# Altium schematic symbol library Node v2013.SCHLIB: 37 symbols
Pins are listed as number, name and electrical type; pins without a type are passive.

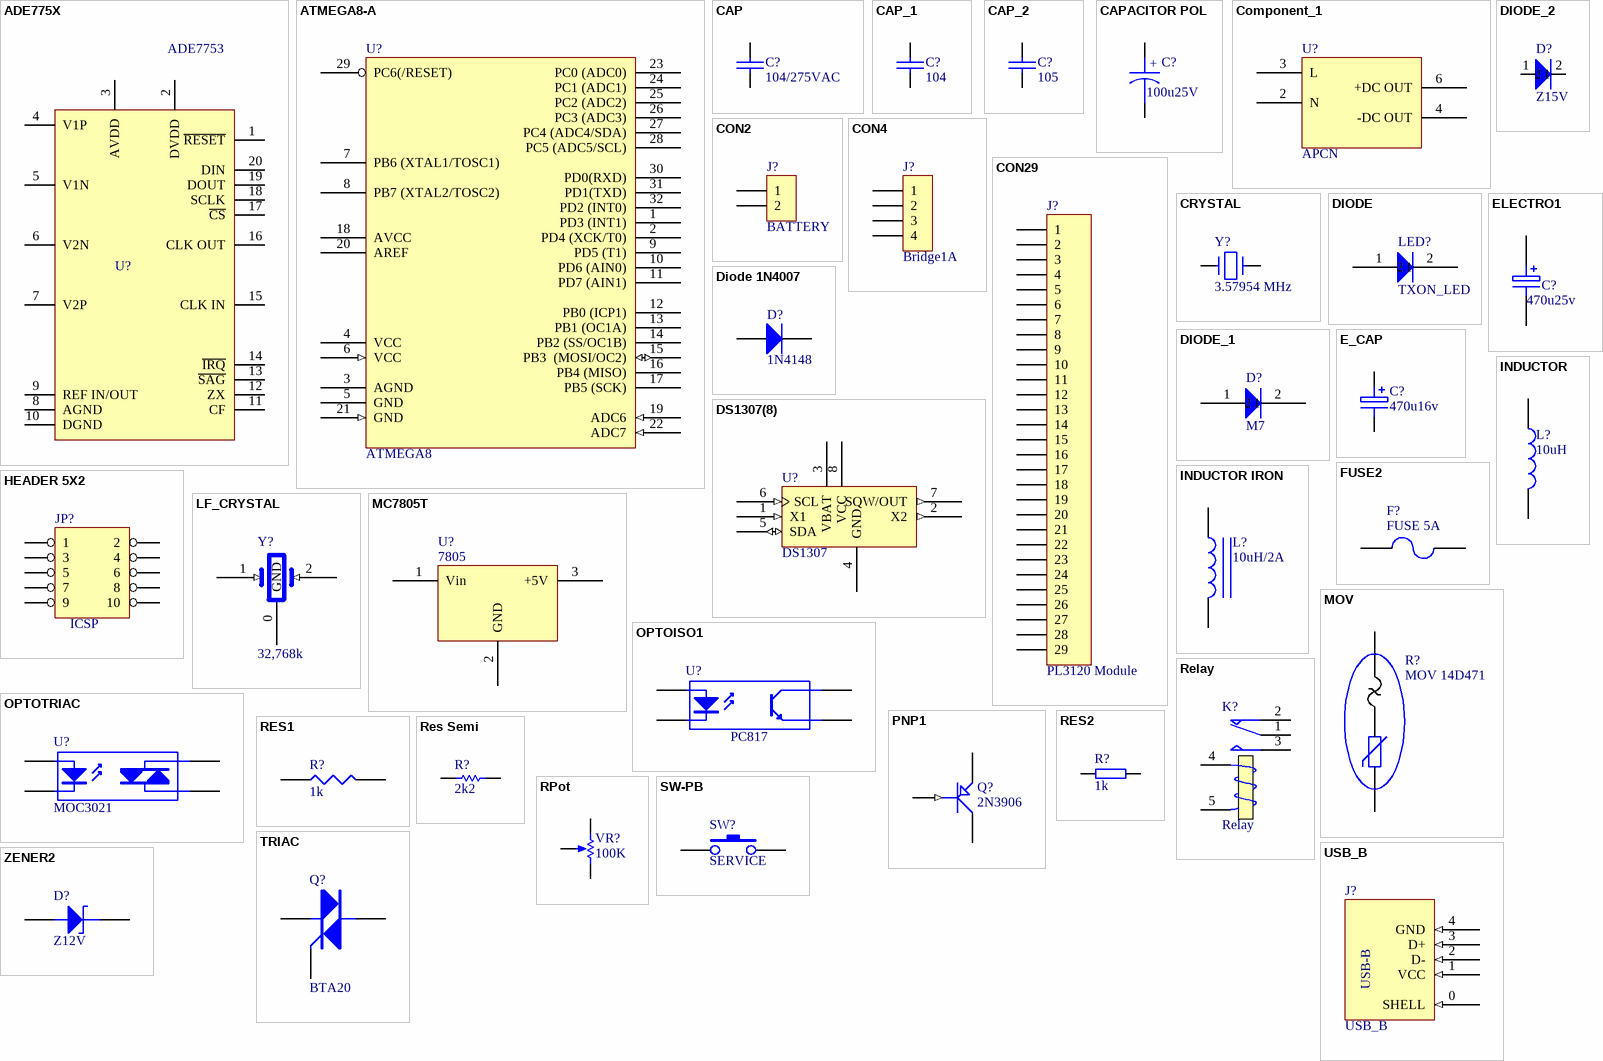
[diagram p0: symbols ADE775X to ZENER2]

## ADE775X
designator U?, comment ADE7753
footprint ADE775X
pins: 1 ~{RESET}, 2 DVDD, 3 AVDD, 4 V1P, 5 V1N, 6 V2N, 7 V2P, 8 AGND, 9 REF IN/OUT, 10 DGND, 11 CF, 12 ZX, 13 ~{SAG}, 14 ~{IRQ}, 15 CLK IN, 16 CLK OUT, 17 ~{CS}, 18 SCLK, 19 DOUT, 20 DIN

## ATMEGA8-A
designator U?, comment ATMEGA8
TQFP package
footprint ATMEGA8
pins: 1 PD3 (INT1), 2 PD4 (XCK/T0), 3 AGND, 4 VCC, 5 GND, 6 VCC (in), 7 PB6 (XTAL1/TOSC1), 8 PB7 (XTAL2/TOSC2), 9 PD5 (T1), 10 PD6 (AIN0), 11 PD7 (AIN1), 12 PB0 (ICP1), 13 PB1 (OC1A), 14 PB2 (SS/OC1B), 15 PB3  (MOSI/OC2) (io), 16 PB4 (MISO), 17 PB5 (SCK), 18 AVCC, 19 ADC6 (in), 20 AREF, 21 GND (in), 22 ADC7 (in), 23 PC0 (ADC0), 24 PC1 (ADC1), 25 PC2 (ADC2), 26 PC3 (ADC3), 27 PC4 (ADC4/SDA), 28 PC5 (ADC5/SCL), 29 PC6(/RESET), 30 PD0(RXD), 31 PD1(TXD), 32 PD2 (INT0)

## CAP
designator C?, comment 104/275VAC
Capacitor
footprint 100n400v
pins: 1, 2

## CAP_1
designator C?, comment 104
Capacitor
footprint 0805dd
pins: 1, 2

## CAP_2
designator C?, comment 105
Capacitor
footprint CSIP3
pins: 1, 2

## CAPACITOR POL
designator C?, comment 100u25V
Capacitor
footprint CAP30x12
pins: 1, 2
text: +

## Component_1
designator U?, comment APCN
footprint APCN (AC - DC convert module 15W)
pins: 2 N, 3 L, 4 -DC OUT, 6 +DC OUT

## CON2
designator J?, comment BATTERY
Connector
footprint pincucao
pins: 1, 2

## CON4
designator J?, comment Bridge1A
Connector
footprint CAUSMD
pins: 1, 2, 3, 4

## CON29
designator J?, comment PL3120 Module
Connector
footprint ECHELONMODULE
pins: 1, 2, 3, 4, 5, 6, 7, 8, 9, 10, 11, 12, 13, 14, 15, 16, 17, 18, 19, 20, 21, 22, 23, 24, 25, 26, 27, 28, 29

## CRYSTAL
designator Y?, comment 3.57954 MHz
Crystal
footprint XTAL
pins: 1, 2

## DIODE
designator LED?, comment TXON_LED
footprint DIODE1A
footprint led3mm
pins: 1, 2

## Diode 1N4007
designator D?, comment 1N4148
1 Amp General Purpose Rectifier; Published: 8-Jun-2000; LatestRevisionDate: 17-Jul-2002; LatestRevisionNote: Re-released for DXP Platform.; DatasheetDocument: 1998; PackageDocument: Aug-1999; PackageReference: DO-41; Publisher: Altium Limited; Code_JEDEC: DO-204-AL; ComponentLink1Description: Manufacturer Link; ComponentLink1URL: http://www.fairchildsemi.com/; ComponentLink2Description: Datasheet; ComponentLink2URL: http://www.fairchildsemi.com/ds/1N%2F1N4001.pdf
footprint DO-41
footprint DO-35
footprint AXIAL0.3
pins: 1 A, 2 K
2 alternate drawings of the same symbol

## DIODE_1
designator D?, comment M7
footprint DIODE1A
footprint DIODE0.4
pins: 1, 2

## DIODE_2
designator D?, comment Z15V
footprint DIODE1A
pins: 1, 2

## DS1307(8)
designator U?, comment DS1307
64x8 SERIAL REAL TIME CLOCK
footprint DIP-8
footprint SO8
footprint SO-8
pins: 1 X1 (in), 2 X2 (out), 3 VBAT (power), 4 GND (power), 5 SDA (io), 6 SCL (in), 7 SQW/OUT (out), 8 VCC (power)

## E_CAP
designator C?, comment 470u16v
footprint 10u50V
pins: 1, 2

## ELECTRO1
designator C?, comment 470u25v
Electrolytic Capacitor
footprint CAP30x12
pins: 1, 2

## FUSE2
designator F?, comment FUSE 5A
Fuse
footprint CAUCHIKEP
pins: 1, 2

## HEADER 5X2
designator JP?, comment ICSP
footprint IDC10
pins: 1, 2, 3, 4, 5, 6, 7, 8, 9, 10

## INDUCTOR
designator L?, comment 10uH
footprint AXIAL0.4
pins: 1, 2

## INDUCTOR IRON
designator L?, comment 10uH/2A
footprint R1W_dung
pins: 1, 2

## LF_CRYSTAL
designator Y?, comment 32,768k
footprint LFCRYSTAL
pins: 0 GND (power) hidden to GND, 1 (in), 2 (in)

## MC7805T
designator U?, comment 7805
footprint TO220H
footprint J7805
pins: 1 Vin, 2 GND, 3 +5V

## MOV
designator R?, comment MOV 14D471
footprint MOV471
pins: 1, 2

## OPTOISO1
designator U?, comment PC817
Optoisolator
footprint TLP521
pins: 1 A, 2 K, 3 C, 4 E

## OPTOTRIAC
designator U?, comment MOC3021
footprint DIP6
pins: 1 A, 2 K, 4 A/K, 6 A/K

## PNP1
designator Q?, comment 2N3906
PNP Transistor
footprint SOT-23
pins: 1 B (in), 2 E, 3 C

## Relay
designator K?
SPDT Relay; Published: 8-Jun-2000; LatestRevisionDate: 17-Jul-2002; LatestRevisionNote: Re-released for DXP Platform.; PackageReference: MODULE5B; Publisher: Altium Limited
footprint MODULE5B
footprint Relay G2R - 1
footprint Relayvuong
pins: 1 COM, 2 NC, 3 NO, 4 T1, 5 T2
2 alternate drawings of the same symbol

## RES1
designator R?, comment 1k
footprint 0805dd
pins: 1, 2

## RES2
designator R?, comment 1k
footprint 0805dd
pins: 1, 2

## Res Semi
designator R?, comment 2k2
Semiconductor Resistor; Published: 8-Jun-2000; LatestRevisionDate: 17-Jul-2002; LatestRevisionNote: Re-released for DXP Platform.; PackageReference: AXIAL-0.5; Publisher: Altium Limited; Value: 2K2
footprint AXIAL-0.5
footprint 1005[0402]
footprint 1608[0603]
footprint 2012[0805]
footprint 0805dd
pins: 1, 2
2 alternate drawings of the same symbol

## RPot
designator VR?, comment 100K
Potentiometer; Published: *; LatestRevisionDate: *; LatestRevisionNote: *; PackageReference: *; Publisher: *; Sim Note: *; Set Position: *; Value: *
footprint VR5
footprint VR Plastic
footprint BTXANH
pins: 1 TOP, 2 TAP, 3 BOT
2 alternate drawings of the same symbol

## SW-PB
designator SW?, comment SERVICE
footprint CTCHIPNGANG
pins: 1, 2

## TRIAC
designator Q?, comment BTA20
footprint H1061
pins: 1 T, 2 T, 3 G

## USB_B
designator J?
footprint USB_B
pins: 0 SHELL (in), 1 VCC (in), 2 D- (in), 3 D+ (in), 4 GND (in)
text: USB-B

## ZENER2
designator D?, comment Z12V
Zener Diode
footprint AXIAL0.3
pins: 1 A, 2 K